# EAGLE library part KK-396-FEMALE (library molex kk-396-female)
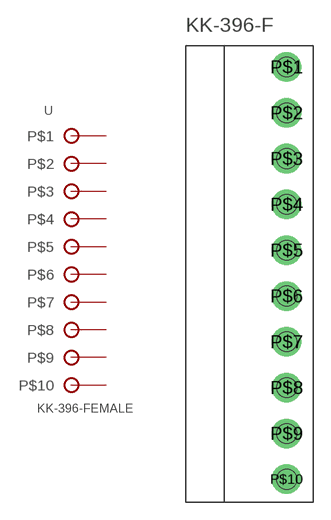
[diagram p0: symbol with the pads of KK-396-FEMALE; footprint KK-396-FEMALE]

Designator prefix -

## KK-396-FEMALE  [KK-396-FEMALE]
P$1  P$1
P$2  P$2
P$3  P$3
P$4  P$4
P$5  P$5
P$6  P$6
P$7  P$7
P$8  P$8
P$9  P$9
P$10  P$10

## Footprint KK-396-FEMALE (pad centres in mm)
drill 1.7: P$1 8.71,37.62; P$2 8.71,33.66; P$3 8.71,29.7; P$4 8.71,25.74; P$5 8.71,21.78; P$6 8.71,17.82; P$7 8.71,13.86; P$8 8.71,9.9; P$9 8.71,5.94; P$10 8.71,1.98
hole 1.7 at 8.71,37.62
hole 1.7 at 8.71,33.66
hole 1.7 at 8.71,29.7
hole 1.7 at 8.71,25.74
hole 1.7 at 8.71,21.78
hole 1.7 at 8.71,17.82
hole 1.7 at 8.71,13.86
hole 1.7 at 8.71,9.9
hole 1.7 at 8.71,5.94
hole 1.7 at 8.71,1.98